# Altium integrated library Microchip Wireless.IntLib: 91 symbols (part 1 of 3)
Pins are listed as number, name and electrical type; pins without a type are passive.

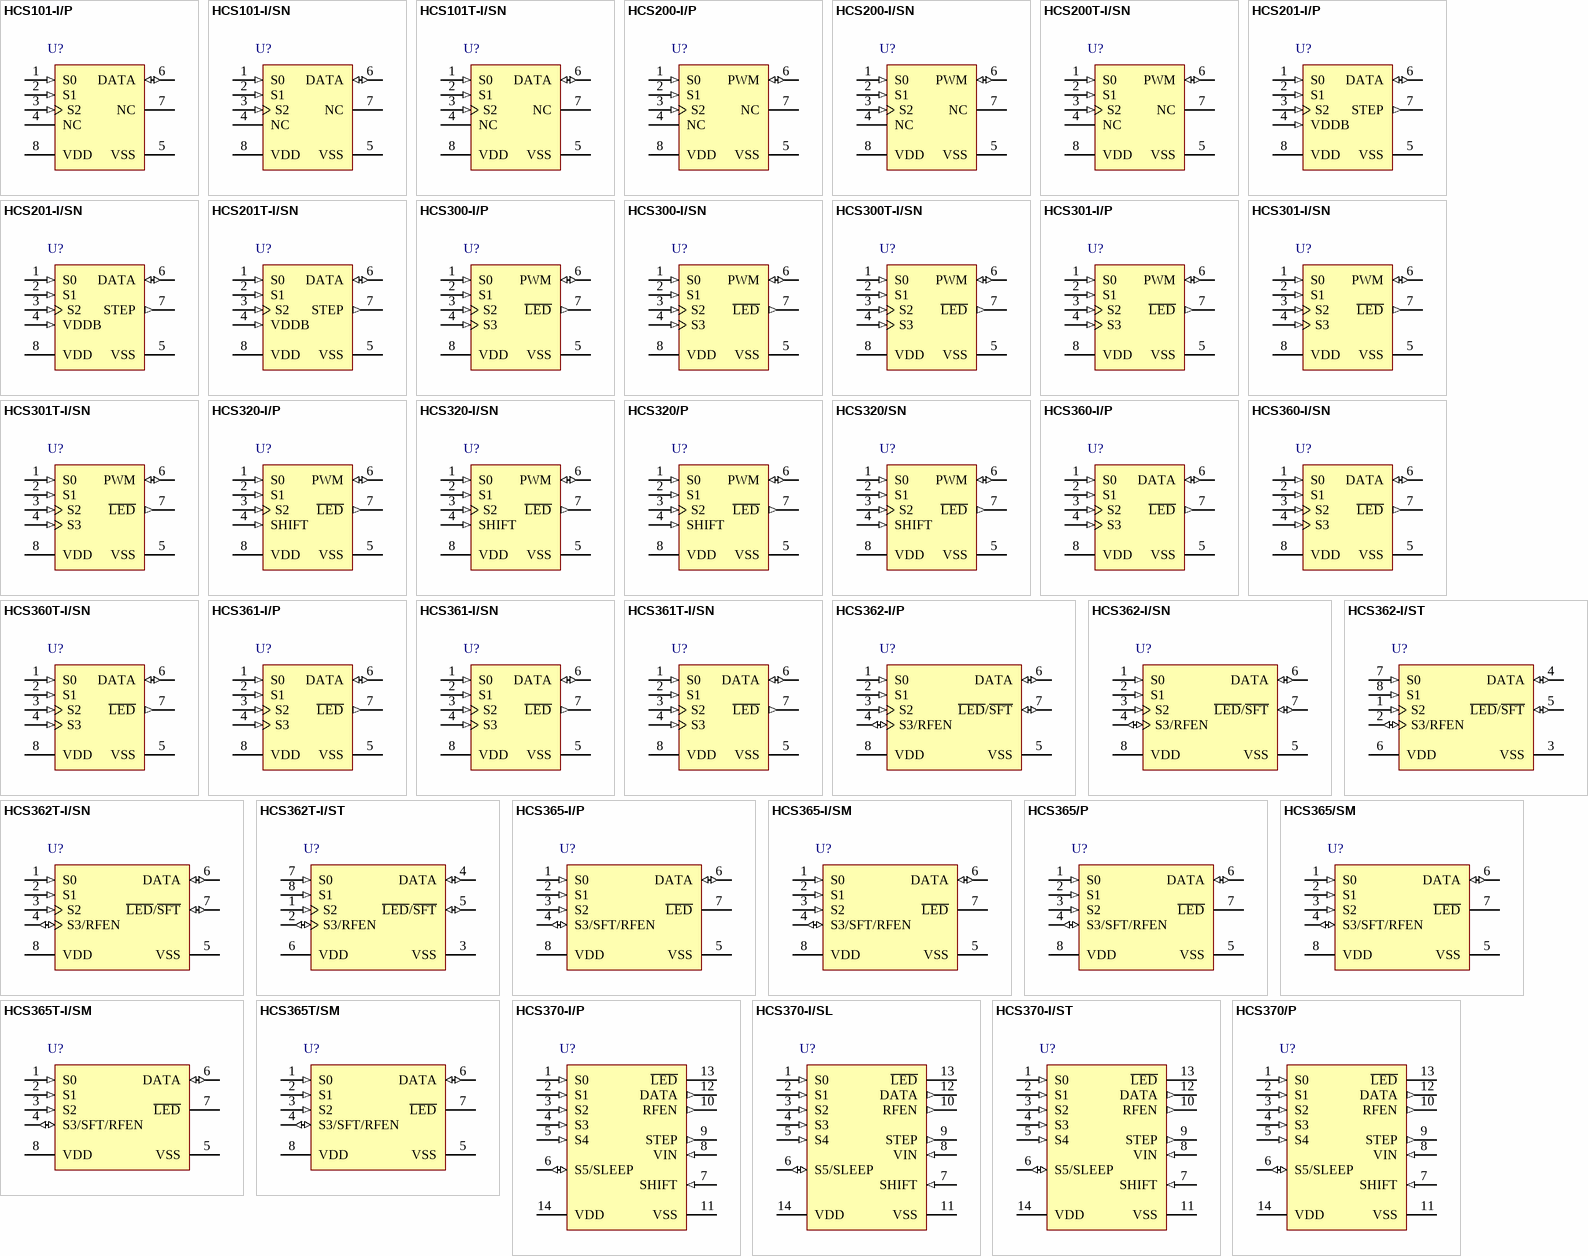
[diagram p0: symbols HCS101-I/P to HCS370/P]

## HCS101-I/P
designator U?
Fixed Code Encoder, 8-Pin PDIP, Industrial Temperature; Manufacturer: Microchip; PartNumber: HCS101-I/P; DatasheetVersion: revC, Nov-2002; PackageVersion: revBB, Aug-2009; PackageReference: PDIP300-P8; PackageDescription: 8-Lead Plastic Dual In-Line (P) - 300 mil Body [PDIP]; Supplier 1: Digi-Key; Supplier Part Number 1: HCS101-I/P-ND; Supplier 2: Mouser; Supplier Part Number 2: 579-HCS101-I/P; Mounting Technology: Through Hole; Code_JEDEC: MS-001; ComponentLink1Description: Manufacturer URL; ComponentLink1URL: http://www.microchip.com/; ComponentLink2Description: Datasheet; ComponentLink2URL: http://ww1.microchip.com/downloads/en/DeviceDoc/41115c.pdf; ComponentLink3Description: Package Specification; ComponentLink3URL: http://ww1.microchip.com/downloads/en/PackagingSpec/00049AW.pdf
footprint PDIP300-P8 (DIP, 8-Leads, Row Spacing 7.62mm, Pitch 2.54mm, Body 9.5x6.6mm)
pins: 1 S0 (in), 2 S1 (in), 3 S2 (in), 4 NC, 5 VSS (power), 6 DATA (io), 7 NC, 8 VDD (power)

## HCS101-I/SN
designator U?
Fixed Code Encoder, 8-Pin SOIC 150mil, Industrial Temperature; Manufacturer: Microchip; PartNumber: HCS101-I/SN; DatasheetVersion: revC, Nov-2002; PackageVersion: revBB, Aug-2009; PackageReference: SOIC-SN8; PackageDescription: 8-Lead Plastic Small Outline (SN) - Narrow, 3.90mm Body [SOIC]; Supplier 1: Digi-Key; Supplier Part Number 1: HCS101-I/SN-ND; Supplier 2: Newark; Supplier Part Number 2: 92C4041; Supplier 3: Mouser; Supplier Part Number 3: 579-HCS101-I/SN; Mounting Technology: Surface Mount; Code_JEDEC: MS-012; Code_IPC: SOIC127P600-8; ComponentLink1Description: Manufacturer URL; ComponentLink1URL: http://www.microchip.com/; ComponentLink2Description: Datasheet; ComponentLink2URL: http://ww1.microchip.com/downloads/en/DeviceDoc/41115c.pdf; ComponentLink3Description: Package Specification; ComponentLink3URL: http://ww1.microchip.com/downloads/en/PackagingSpec/00049AW.pdf
footprint SOIC-SN8_N (SOIC, 8-Leads, Body 4.9x3.8mm, Pitch 1.27mm, IPC Medium Density)
footprint SOIC-SN8_L (SOIC, 8-Leads, Body 4.9x3.8mm, Pitch 1.27mm, IPC High Density)
footprint SOIC-SN8_M (SOIC, 8-Leads, Body 4.9x3.8mm, Pitch 1.27mm, IPC Low Density)
pins: 1 S0 (in), 2 S1 (in), 3 S2 (in), 4 NC, 5 VSS (power), 6 DATA (io), 7 NC, 8 VDD (power)

## HCS101T-I/SN
designator U?
Fixed Code Encoder, 8-Pin SOIC 150mil, Industrial Temperature, Tape and Reel; Manufacturer: Microchip; PartNumber: HCS101T-I/SN; DatasheetVersion: revC, Nov-2002; PackageVersion: revBB, Aug-2009; PackageReference: SOIC-SN8; PackageDescription: 8-Lead Plastic Small Outline (SN) - Narrow, 3.90mm Body [SOIC]; Supplier 1: Digi-Key; Supplier Part Number 1: HCS101T-I/SN-ND; Supplier 2: Mouser; Supplier Part Number 2: 579-HCS101T-I/SN; Mounting Technology: Surface Mount; Code_JEDEC: MS-012; Code_IPC: SOIC127P600-8; ComponentLink1Description: Manufacturer URL; ComponentLink1URL: http://www.microchip.com/; ComponentLink2Description: Datasheet; ComponentLink2URL: http://ww1.microchip.com/downloads/en/DeviceDoc/41115c.pdf; ComponentLink3Description: Package Specification; ComponentLink3URL: http://ww1.microchip.com/downloads/en/PackagingSpec/00049AW.pdf
footprint SOIC-SN8_N (SOIC, 8-Leads, Body 4.9x3.8mm, Pitch 1.27mm, IPC Medium Density)
footprint SOIC-SN8_L (SOIC, 8-Leads, Body 4.9x3.8mm, Pitch 1.27mm, IPC High Density)
footprint SOIC-SN8_M (SOIC, 8-Leads, Body 4.9x3.8mm, Pitch 1.27mm, IPC Low Density)
pins: 1 S0 (in), 2 S1 (in), 3 S2 (in), 4 NC, 5 VSS (power), 6 DATA (io), 7 NC, 8 VDD (power)

## HCS200-I/P
designator U?
KEELOQ® Code Hopping Encoder, 8-Pin PDIP, Industrial Temperature; Manufacturer: Microchip; PartNumber: HCS200-I/P; DatasheetVersion: revC, Jan-2002; PackageVersion: revBB, Aug-2009; PackageReference: PDIP300-P8; PackageDescription: 8-Lead Plastic Dual In-Line (P) - 300 mil Body [PDIP]; Supplier 1: Digi-Key; Supplier Part Number 1: HCS200-I/P-ND; Supplier 2: Newark; Supplier Part Number 2: 96K3663; Supplier 3: Mouser; Supplier Part Number 3: 579-HCS200-I/P; Mounting Technology: Through Hole; Code_JEDEC: MS-001; ComponentLink1Description: Manufacturer URL; ComponentLink1URL: http://www.microchip.com/; ComponentLink2Description: Datasheet; ComponentLink2URL: http://ww1.microchip.com/downloads/en/DeviceDoc/40138c.pdf; ComponentLink3Description: Package Specification; ComponentLink3URL: http://ww1.microchip.com/downloads/en/PackagingSpec/00049AW.pdf
footprint PDIP300-P8 (DIP, 8-Leads, Row Spacing 7.62mm, Pitch 2.54mm, Body 9.5x6.6mm)
pins: 1 S0 (in), 2 S1 (in), 3 S2 (in), 4 NC, 5 VSS (power), 6 PWM (io), 7 NC, 8 VDD (power)

## HCS200-I/SN
designator U?
KEELOQ® Code Hopping Encoder, 8-Pin SOIC 150mil, Industrial Temperature; Manufacturer: Microchip; PartNumber: HCS200-I/SN; DatasheetVersion: revC, Jan-2002; PackageVersion: revBB, Aug-2009; PackageReference: SOIC-SN8; PackageDescription: 8-Lead Plastic Small Outline (SN) - Narrow, 3.90mm Body [SOIC]; Supplier 1: Digi-Key; Supplier Part Number 1: HCS200-I/SN-ND; Supplier 2: Newark; Supplier Part Number 2: 33C0772; Supplier 3: Mouser; Supplier Part Number 3: 579-HCS200-I/SN; Mounting Technology: Surface Mount; Code_JEDEC: MS-012; Code_IPC: SOIC127P600-8; ComponentLink1Description: Manufacturer URL; ComponentLink1URL: http://www.microchip.com/; ComponentLink2Description: Datasheet; ComponentLink2URL: http://ww1.microchip.com/downloads/en/DeviceDoc/40138c.pdf; ComponentLink3Description: Package Specification; ComponentLink3URL: http://ww1.microchip.com/downloads/en/PackagingSpec/00049AW.pdf
footprint SOIC-SN8_N (SOIC, 8-Leads, Body 4.9x3.8mm, Pitch 1.27mm, IPC Medium Density)
footprint SOIC-SN8_L (SOIC, 8-Leads, Body 4.9x3.8mm, Pitch 1.27mm, IPC High Density)
footprint SOIC-SN8_M (SOIC, 8-Leads, Body 4.9x3.8mm, Pitch 1.27mm, IPC Low Density)
pins: 1 S0 (in), 2 S1 (in), 3 S2 (in), 4 NC, 5 VSS (power), 6 PWM (io), 7 NC, 8 VDD (power)

## HCS200T-I/SN
designator U?
KEELOQ® Code Hopping Encoder, 8-Pin SOIC 150mil, Industrial Temperature, Tape and Reel; Manufacturer: Microchip; PartNumber: HCS200T-I/SN; DatasheetVersion: revC, Jan-2002; PackageVersion: revBB, Aug-2009; PackageReference: SOIC-SN8; PackageDescription: 8-Lead Plastic Small Outline (SN) - Narrow, 3.90mm Body [SOIC]; Supplier 1: Digi-Key; Supplier Part Number 1: HCS200T-I/SN-ND; Supplier 2: Mouser; Supplier Part Number 2: 579-HCS200T-I/SN; Mounting Technology: Surface Mount; Code_JEDEC: MS-012; Code_IPC: SOIC127P600-8; ComponentLink1Description: Manufacturer URL; ComponentLink1URL: http://www.microchip.com/; ComponentLink2Description: Datasheet; ComponentLink2URL: http://ww1.microchip.com/downloads/en/DeviceDoc/40138c.pdf; ComponentLink3Description: Package Specification; ComponentLink3URL: http://ww1.microchip.com/downloads/en/PackagingSpec/00049AW.pdf
footprint SOIC-SN8_N (SOIC, 8-Leads, Body 4.9x3.8mm, Pitch 1.27mm, IPC Medium Density)
footprint SOIC-SN8_L (SOIC, 8-Leads, Body 4.9x3.8mm, Pitch 1.27mm, IPC High Density)
footprint SOIC-SN8_M (SOIC, 8-Leads, Body 4.9x3.8mm, Pitch 1.27mm, IPC Low Density)
pins: 1 S0 (in), 2 S1 (in), 3 S2 (in), 4 NC, 5 VSS (power), 6 PWM (io), 7 NC, 8 VDD (power)

## HCS201-I/P
designator U?
KEELOQ® Code Hopping Encoder, 8-Pin PDIP, Industrial Temperature; Manufacturer: Microchip; PartNumber: HCS201-I/P; DatasheetVersion: revC, Dec-2001; PackageVersion: revBB, Aug-2009; PackageReference: PDIP300-P8; PackageDescription: 8-Lead Plastic Dual In-Line (P) - 300 mil Body [PDIP]; Supplier 1: Digi-Key; Supplier Part Number 1: HCS201-I/P-ND; Supplier 2: Mouser; Supplier Part Number 2: 579-HCS201-I/P; Mounting Technology: Through Hole; Code_JEDEC: MS-001; ComponentLink1Description: Manufacturer URL; ComponentLink1URL: http://www.microchip.com/; ComponentLink2Description: Datasheet; ComponentLink2URL: http://ww1.microchip.com/downloads/en/DeviceDoc/41098c.pdf; ComponentLink3Description: Package Specification; ComponentLink3URL: http://ww1.microchip.com/downloads/en/PackagingSpec/00049AW.pdf
footprint PDIP300-P8 (DIP, 8-Leads, Row Spacing 7.62mm, Pitch 2.54mm, Body 9.5x6.6mm)
pins: 1 S0 (in), 2 S1 (in), 3 S2 (in), 4 VDDB (in), 5 VSS (power), 6 DATA (io), 7 STEP (out), 8 VDD (power)

## HCS201-I/SN
designator U?
KEELOQ® Code Hopping Encoder, 8-Pin SOIC 150mil, Industrial Temperature; Manufacturer: Microchip; PartNumber: HCS201-I/SN; DatasheetVersion: revC, Dec-2001; PackageVersion: revBB, Aug-2009; PackageReference: SOIC-SN8; PackageDescription: 8-Lead Plastic Small Outline (SN) - Narrow, 3.90mm Body [SOIC]; Supplier 1: Digi-Key; Supplier Part Number 1: HCS201-I/SN-ND; Supplier 2: Newark; Supplier Part Number 2: 33C0774; Supplier 3: Mouser; Supplier Part Number 3: 579-HCS201-I/SN; Mounting Technology: Surface Mount; Code_JEDEC: MS-012; Code_IPC: SOIC127P600-8; ComponentLink1Description: Manufacturer URL; ComponentLink1URL: http://www.microchip.com/; ComponentLink2Description: Datasheet; ComponentLink2URL: http://ww1.microchip.com/downloads/en/DeviceDoc/41098c.pdf; ComponentLink3Description: Package Specification; ComponentLink3URL: http://ww1.microchip.com/downloads/en/PackagingSpec/00049AW.pdf
footprint SOIC-SN8_N (SOIC, 8-Leads, Body 4.9x3.8mm, Pitch 1.27mm, IPC Medium Density)
footprint SOIC-SN8_L (SOIC, 8-Leads, Body 4.9x3.8mm, Pitch 1.27mm, IPC High Density)
footprint SOIC-SN8_M (SOIC, 8-Leads, Body 4.9x3.8mm, Pitch 1.27mm, IPC Low Density)
pins: 1 S0 (in), 2 S1 (in), 3 S2 (in), 4 VDDB (in), 5 VSS (power), 6 DATA (io), 7 STEP (out), 8 VDD (power)

## HCS201T-I/SN
designator U?
KEELOQ® Code Hopping Encoder, 8-Pin SOIC 150mil, Industrial Temperature, Tape and Reel; Manufacturer: Microchip; PartNumber: HCS201T-I/SN; DatasheetVersion: revC, Dec-2001; PackageVersion: revBB, Aug-2009; PackageReference: SOIC-SN8; PackageDescription: 8-Lead Plastic Small Outline (SN) - Narrow, 3.90mm Body [SOIC]; Supplier 1: Digi-Key; Supplier Part Number 1: HCS201T-I/SN-ND; Supplier 2: Mouser; Supplier Part Number 2: 579-HCS201T-I/SN; Mounting Technology: Surface Mount; Code_JEDEC: MS-012; Code_IPC: SOIC127P600-8; ComponentLink1Description: Manufacturer URL; ComponentLink1URL: http://www.microchip.com/; ComponentLink2Description: Datasheet; ComponentLink2URL: http://ww1.microchip.com/downloads/en/DeviceDoc/41098c.pdf; ComponentLink3Description: Package Specification; ComponentLink3URL: http://ww1.microchip.com/downloads/en/PackagingSpec/00049AW.pdf
footprint SOIC-SN8_N (SOIC, 8-Leads, Body 4.9x3.8mm, Pitch 1.27mm, IPC Medium Density)
footprint SOIC-SN8_L (SOIC, 8-Leads, Body 4.9x3.8mm, Pitch 1.27mm, IPC High Density)
footprint SOIC-SN8_M (SOIC, 8-Leads, Body 4.9x3.8mm, Pitch 1.27mm, IPC Low Density)
pins: 1 S0 (in), 2 S1 (in), 3 S2 (in), 4 VDDB (in), 5 VSS (power), 6 DATA (io), 7 STEP (out), 8 VDD (power)

## HCS300-I/P
designator U?
KEELOQ® Code Hopping Encoder, 8-Pin PDIP, Industrial Temperature; Manufacturer: Microchip; PartNumber: HCS300-I/P; DatasheetVersion: revF, Nov-2002; PackageVersion: revBB, Aug-2009; PackageReference: PDIP300-P8; PackageDescription: 8-Lead Plastic Dual In-Line (P) - 300 mil Body [PDIP]; Supplier 1: Digi-Key; Supplier Part Number 1: HCS300-I/P-ND; Supplier 2: Newark; Supplier Part Number 2: 65K1031; Supplier 3: Mouser; Supplier Part Number 3: 579-HCS300-I/P; Mounting Technology: Through Hole; Code_JEDEC: MS-001; ComponentLink1Description: Manufacturer URL; ComponentLink1URL: http://www.microchip.com/; ComponentLink2Description: Datasheet; ComponentLink2URL: http://ww1.microchip.com/downloads/en/DeviceDoc/21137f.pdf; ComponentLink3Description: Package Specification; ComponentLink3URL: http://ww1.microchip.com/downloads/en/PackagingSpec/00049AW.pdf
footprint PDIP300-P8 (DIP, 8-Leads, Row Spacing 7.62mm, Pitch 2.54mm, Body 9.5x6.6mm)
pins: 1 S0 (in), 2 S1 (in), 3 S2 (in), 4 S3 (in), 5 VSS (power), 6 PWM (io), 7 ~{LED} (out), 8 VDD (power)

## HCS300-I/SN
designator U?
KEELOQ® Code Hopping Encoder, 8-Pin SOIC 150mil, Industrial Temperature; Manufacturer: Microchip; PartNumber: HCS300-I/SN; DatasheetVersion: revF, Nov-2002; PackageVersion: revBB, Aug-2009; PackageReference: SOIC-SN8; PackageDescription: 8-Lead Plastic Small Outline (SN) - Narrow, 3.90mm Body [SOIC]; Supplier 1: Digi-Key; Supplier Part Number 1: HCS300-I/SN-ND; Supplier 2: Farnell; Supplier Part Number 2: 2078282; Supplier 3: Newark; Supplier Part Number 3: 06W0721; Supplier 4: Newark; Supplier Part Number 4: 96K3668; Supplier 5: Mouser; Supplier Part Number 5: 579-HCS300-I/SN; Mounting Technology: Surface Mount; Code_JEDEC: MS-012; Code_IPC: SOIC127P600-8; ComponentLink1Description: Manufacturer URL; ComponentLink1URL: http://www.microchip.com/; ComponentLink2Description: Datasheet; ComponentLink2URL: http://ww1.microchip.com/downloads/en/DeviceDoc/21137f.pdf; ComponentLink3Description: Package Specification; ComponentLink3URL: http://ww1.microchip.com/downloads/en/PackagingSpec/00049AW.pdf
footprint SOIC-SN8_N (SOIC, 8-Leads, Body 4.9x3.8mm, Pitch 1.27mm, IPC Medium Density)
footprint SOIC-SN8_L (SOIC, 8-Leads, Body 4.9x3.8mm, Pitch 1.27mm, IPC High Density)
footprint SOIC-SN8_M (SOIC, 8-Leads, Body 4.9x3.8mm, Pitch 1.27mm, IPC Low Density)
pins: 1 S0 (in), 2 S1 (in), 3 S2 (in), 4 S3 (in), 5 VSS (power), 6 PWM (io), 7 ~{LED} (out), 8 VDD (power)

## HCS300T-I/SN
designator U?
KEELOQ® Code Hopping Encoder, 8-Pin SOIC 150mil, Industrial Temperature, Tape and Reel; Manufacturer: Microchip; PartNumber: HCS300T-I/SN; DatasheetVersion: revF, Nov-2002; PackageVersion: revBB, Aug-2009; PackageReference: SOIC-SN8; PackageDescription: 8-Lead Plastic Small Outline (SN) - Narrow, 3.90mm Body [SOIC]; Supplier 1: Digi-Key; Supplier Part Number 1: HCS300T-I/SN-ND; Supplier 2: Mouser; Supplier Part Number 2: 579-HCS300T-I/SN; Mounting Technology: Surface Mount; Code_JEDEC: MS-012; Code_IPC: SOIC127P600-8; ComponentLink1Description: Manufacturer URL; ComponentLink1URL: http://www.microchip.com/; ComponentLink2Description: Datasheet; ComponentLink2URL: http://ww1.microchip.com/downloads/en/DeviceDoc/21137f.pdf; ComponentLink3Description: Package Specification; ComponentLink3URL: http://ww1.microchip.com/downloads/en/PackagingSpec/00049AW.pdf
footprint SOIC-SN8_N (SOIC, 8-Leads, Body 4.9x3.8mm, Pitch 1.27mm, IPC Medium Density)
footprint SOIC-SN8_L (SOIC, 8-Leads, Body 4.9x3.8mm, Pitch 1.27mm, IPC High Density)
footprint SOIC-SN8_M (SOIC, 8-Leads, Body 4.9x3.8mm, Pitch 1.27mm, IPC Low Density)
pins: 1 S0 (in), 2 S1 (in), 3 S2 (in), 4 S3 (in), 5 VSS (power), 6 PWM (io), 7 ~{LED} (out), 8 VDD (power)

## HCS301-I/P
designator U?
KEELOQ® Code Hopping Encoder, 8-Pin PDIP, Industrial Temperature; Manufacturer: Microchip; PartNumber: HCS301-I/P; DatasheetVersion: revB, Dec-2001; PackageVersion: revBB, Aug-2009; PackageReference: PDIP300-P8; PackageDescription: 8-Lead Plastic Dual In-Line (P) - 300 mil Body [PDIP]; Supplier 1: Digi-Key; Supplier Part Number 1: HCS301-I/P-ND; Supplier 2: Newark; Supplier Part Number 2: 96K3670; Supplier 3: Mouser; Supplier Part Number 3: 579-HCS301-I/P; Mounting Technology: Through Hole; Code_JEDEC: MS-001; ComponentLink1Description: Manufacturer URL; ComponentLink1URL: http://www.microchip.com/; ComponentLink2Description: Datasheet; ComponentLink2URL: http://ww1.microchip.com/downloads/en/DeviceDoc/21143b.pdf; ComponentLink3Description: Package Specification; ComponentLink3URL: http://ww1.microchip.com/downloads/en/PackagingSpec/00049AW.pdf
footprint PDIP300-P8 (DIP, 8-Leads, Row Spacing 7.62mm, Pitch 2.54mm, Body 9.5x6.6mm)
pins: 1 S0 (in), 2 S1 (in), 3 S2 (in), 4 S3 (in), 5 VSS (power), 6 PWM (io), 7 ~{LED} (out), 8 VDD (power)

## HCS301-I/SN
designator U?
KEELOQ® Code Hopping Encoder, 8-Pin SOIC 150mil, Industrial Temperature; Manufacturer: Microchip; PartNumber: HCS301-I/SN; DatasheetVersion: revB, Dec-2001; PackageVersion: revBB, Aug-2009; PackageReference: SOIC-SN8; PackageDescription: 8-Lead Plastic Small Outline (SN) - Narrow, 3.90mm Body [SOIC]; Supplier 1: Digi-Key; Supplier Part Number 1: HCS301-I/SN-ND; Supplier 2: Farnell; Supplier Part Number 2: 1212475; Supplier 3: Newark; Supplier Part Number 3: 34M6373; Supplier 4: Newark; Supplier Part Number 4: 12C1803; Supplier 5: Mouser; Supplier Part Number 5: 579-HCS301-I/SN; Mounting Technology: Surface Mount; Code_JEDEC: MS-012; Code_IPC: SOIC127P600-8; ComponentLink1Description: Manufacturer URL; ComponentLink1URL: http://www.microchip.com/; ComponentLink2Description: Datasheet; ComponentLink2URL: http://ww1.microchip.com/downloads/en/DeviceDoc/21143b.pdf; ComponentLink3Description: Package Specification; ComponentLink3URL: http://ww1.microchip.com/downloads/en/PackagingSpec/00049AW.pdf
footprint SOIC-SN8_N (SOIC, 8-Leads, Body 4.9x3.8mm, Pitch 1.27mm, IPC Medium Density)
footprint SOIC-SN8_L (SOIC, 8-Leads, Body 4.9x3.8mm, Pitch 1.27mm, IPC High Density)
footprint SOIC-SN8_M (SOIC, 8-Leads, Body 4.9x3.8mm, Pitch 1.27mm, IPC Low Density)
pins: 1 S0 (in), 2 S1 (in), 3 S2 (in), 4 S3 (in), 5 VSS (power), 6 PWM (io), 7 ~{LED} (out), 8 VDD (power)

## HCS301T-I/SN
designator U?
KEELOQ® Code Hopping Encoder, 8-Pin SOIC 150mil, Industrial Temperature, Tape and Reel; Manufacturer: Microchip; PartNumber: HCS301T-I/SN; DatasheetVersion: revB, Dec-2001; PackageVersion: revBB, Aug-2009; PackageReference: SOIC-SN8; PackageDescription: 8-Lead Plastic Small Outline (SN) - Narrow, 3.90mm Body [SOIC]; Supplier 1: Digi-Key; Supplier Part Number 1: HCS301T-I/SN-ND; Supplier 2: Mouser; Supplier Part Number 2: 579-HCS301T-I/SN; Mounting Technology: Surface Mount; Code_JEDEC: MS-012; Code_IPC: SOIC127P600-8; ComponentLink1Description: Manufacturer URL; ComponentLink1URL: http://www.microchip.com/; ComponentLink2Description: Datasheet; ComponentLink2URL: http://ww1.microchip.com/downloads/en/DeviceDoc/21143b.pdf; ComponentLink3Description: Package Specification; ComponentLink3URL: http://ww1.microchip.com/downloads/en/PackagingSpec/00049AW.pdf
footprint SOIC-SN8_N (SOIC, 8-Leads, Body 4.9x3.8mm, Pitch 1.27mm, IPC Medium Density)
footprint SOIC-SN8_L (SOIC, 8-Leads, Body 4.9x3.8mm, Pitch 1.27mm, IPC High Density)
footprint SOIC-SN8_M (SOIC, 8-Leads, Body 4.9x3.8mm, Pitch 1.27mm, IPC Low Density)
pins: 1 S0 (in), 2 S1 (in), 3 S2 (in), 4 S3 (in), 5 VSS (power), 6 PWM (io), 7 ~{LED} (out), 8 VDD (power)

## HCS320-I/P
designator U?
KEELOQ® Code Hopping Encoder, 8-Pin PDIP, Industrial Temperature; Manufacturer: Microchip; PartNumber: HCS320-I/P; DatasheetVersion: revC, Dec-2001; PackageVersion: revBB, Aug-2009; PackageReference: PDIP300-P8; PackageDescription: 8-Lead Plastic Dual In-Line (P) - 300 mil Body [PDIP]; Supplier 1: Digi-Key; Supplier Part Number 1: HCS320-I/P-ND; Supplier 2: Newark; Supplier Part Number 2: 33C0775; Supplier 3: Mouser; Supplier Part Number 3: 579-HCS320-I/P; Mounting Technology: Through Hole; Code_JEDEC: MS-001; ComponentLink1Description: Manufacturer URL; ComponentLink1URL: http://www.microchip.com/; ComponentLink2Description: Datasheet; ComponentLink2URL: http://ww1.microchip.com/downloads/en/DeviceDoc/41097c.pdf; ComponentLink3Description: Package Specification; ComponentLink3URL: http://ww1.microchip.com/downloads/en/PackagingSpec/00049AW.pdf
footprint PDIP300-P8 (DIP, 8-Leads, Row Spacing 7.62mm, Pitch 2.54mm, Body 9.5x6.6mm)
pins: 1 S0 (in), 2 S1 (in), 3 S2 (in), 4 SHIFT (in), 5 VSS (power), 6 PWM (io), 7 ~{LED} (out), 8 VDD (power)

## HCS320-I/SN
designator U?
KEELOQ® Code Hopping Encoder, 8-Pin SOIC 150mil, Industrial Temperature; Manufacturer: Microchip; PartNumber: HCS320-I/SN; DatasheetVersion: revC, Dec-2001; PackageVersion: revBB, Aug-2009; PackageReference: SOIC-SN8; PackageDescription: 8-Lead Plastic Small Outline (SN) - Narrow, 3.90mm Body [SOIC]; Supplier 1: Digi-Key; Supplier Part Number 1: HCS320-I/SN-ND; Supplier 2: Newark; Supplier Part Number 2: 33C0776; Supplier 3: Mouser; Supplier Part Number 3: 579-HCS320-I/SN; Mounting Technology: Surface Mount; Code_JEDEC: MS-012; Code_IPC: SOIC127P600-8; ComponentLink1Description: Manufacturer URL; ComponentLink1URL: http://www.microchip.com/; ComponentLink2Description: Datasheet; ComponentLink2URL: http://ww1.microchip.com/downloads/en/DeviceDoc/41097c.pdf; ComponentLink3Description: Package Specification; ComponentLink3URL: http://ww1.microchip.com/downloads/en/PackagingSpec/00049AW.pdf
footprint SOIC-SN8_N (SOIC, 8-Leads, Body 4.9x3.8mm, Pitch 1.27mm, IPC Medium Density)
footprint SOIC-SN8_L (SOIC, 8-Leads, Body 4.9x3.8mm, Pitch 1.27mm, IPC High Density)
footprint SOIC-SN8_M (SOIC, 8-Leads, Body 4.9x3.8mm, Pitch 1.27mm, IPC Low Density)
pins: 1 S0 (in), 2 S1 (in), 3 S2 (in), 4 SHIFT (in), 5 VSS (power), 6 PWM (io), 7 ~{LED} (out), 8 VDD (power)

## HCS320/P
designator U?
KEELOQ® Code Hopping Encoder, 8-Pin PDIP, Commercial Temperature; Manufacturer: Microchip; PartNumber: HCS320/P; DatasheetVersion: revC, Dec-2001; PackageVersion: revBB, Aug-2009; PackageReference: PDIP300-P8; PackageDescription: 8-Lead Plastic Dual In-Line (P) - 300 mil Body [PDIP]; Supplier 1: Digi-Key; Supplier Part Number 1: HCS320/P-ND; Supplier 2: Mouser; Supplier Part Number 2: 579-HCS320/P; Mounting Technology: Through Hole; Code_JEDEC: MS-001; ComponentLink1Description: Manufacturer URL; ComponentLink1URL: http://www.microchip.com/; ComponentLink2Description: Datasheet; ComponentLink2URL: http://ww1.microchip.com/downloads/en/DeviceDoc/41097c.pdf; ComponentLink3Description: Package Specification; ComponentLink3URL: http://ww1.microchip.com/downloads/en/PackagingSpec/00049AW.pdf
footprint PDIP300-P8 (DIP, 8-Leads, Row Spacing 7.62mm, Pitch 2.54mm, Body 9.5x6.6mm)
pins: 1 S0 (in), 2 S1 (in), 3 S2 (in), 4 SHIFT (in), 5 VSS (power), 6 PWM (io), 7 ~{LED} (out), 8 VDD (power)

## HCS320/SN
designator U?
KEELOQ® Code Hopping Encoder, 8-Pin SOIC 150mil, Commercial Temperature; Manufacturer: Microchip; PartNumber: HCS320/SN; DatasheetVersion: revC, Dec-2001; PackageVersion: revBB, Aug-2009; PackageReference: SOIC-SN8; PackageDescription: 8-Lead Plastic Small Outline (SN) - Narrow, 3.90mm Body [SOIC]; Supplier 1: Digi-Key; Supplier Part Number 1: HCS320/SN-ND; Supplier 2: Mouser; Supplier Part Number 2: 579-HCS320/SN; Mounting Technology: Surface Mount; Code_JEDEC: MS-012; Code_IPC: SOIC127P600-8; ComponentLink1Description: Manufacturer URL; ComponentLink1URL: http://www.microchip.com/; ComponentLink2Description: Datasheet; ComponentLink2URL: http://ww1.microchip.com/downloads/en/DeviceDoc/41097c.pdf; ComponentLink3Description: Package Specification; ComponentLink3URL: http://ww1.microchip.com/downloads/en/PackagingSpec/00049AW.pdf
footprint SOIC-SN8_N (SOIC, 8-Leads, Body 4.9x3.8mm, Pitch 1.27mm, IPC Medium Density)
footprint SOIC-SN8_L (SOIC, 8-Leads, Body 4.9x3.8mm, Pitch 1.27mm, IPC High Density)
footprint SOIC-SN8_M (SOIC, 8-Leads, Body 4.9x3.8mm, Pitch 1.27mm, IPC Low Density)
pins: 1 S0 (in), 2 S1 (in), 3 S2 (in), 4 SHIFT (in), 5 VSS (power), 6 PWM (io), 7 ~{LED} (out), 8 VDD (power)

## HCS360-I/P
designator U?
KEELOQ® Code Hopping Encoder, 8-Pin PDIP, Industrial Temperature; Manufacturer: Microchip; PartNumber: HCS360-I/P; DatasheetVersion: revE, Jan-2002; PackageVersion: revBB, Aug-2009; PackageReference: PDIP300-P8; PackageDescription: 8-Lead Plastic Dual In-Line (P) - 300 mil Body [PDIP]; Supplier 1: Digi-Key; Supplier Part Number 1: HCS360-I/P-ND; Supplier 2: Mouser; Supplier Part Number 2: 579-HCS360-I/P; Mounting Technology: Through Hole; Code_JEDEC: MS-001; ComponentLink1Description: Manufacturer URL; ComponentLink1URL: http://www.microchip.com/; ComponentLink2Description: Datasheet; ComponentLink2URL: http://ww1.microchip.com/downloads/en/DeviceDoc/40152e.pdf; ComponentLink3Description: Package Specification; ComponentLink3URL: http://ww1.microchip.com/downloads/en/PackagingSpec/00049AW.pdf
footprint PDIP300-P8 (DIP, 8-Leads, Row Spacing 7.62mm, Pitch 2.54mm, Body 9.5x6.6mm)
pins: 1 S0 (in), 2 S1 (in), 3 S2 (in), 4 S3 (in), 5 VSS (power), 6 DATA (io), 7 ~{LED} (out), 8 VDD (power)

## HCS360-I/SN
designator U?
KEELOQ® Code Hopping Encoder, 8-Pin SOIC 150mil, Industrial Temperature; Manufacturer: Microchip; PartNumber: HCS360-I/SN; DatasheetVersion: revE, Jan-2002; PackageVersion: revBB, Aug-2009; PackageReference: SOIC-SN8; PackageDescription: 8-Lead Plastic Small Outline (SN) - Narrow, 3.90mm Body [SOIC]; Supplier 1: Digi-Key; Supplier Part Number 1: HCS360-I/SN-ND; Supplier 2: Farnell; Supplier Part Number 2: 9758321; Supplier 3: Newark; Supplier Part Number 3: 33C0778; Supplier 4: Newark; Supplier Part Number 4: 25M9604; Supplier 5: Mouser; Supplier Part Number 5: 579-HCS360-I/SN; Mounting Technology: Surface Mount; Code_JEDEC: MS-012; Code_IPC: SOIC127P600-8; ComponentLink1Description: Manufacturer URL; ComponentLink1URL: http://www.microchip.com/; ComponentLink2Description: Datasheet; ComponentLink2URL: http://ww1.microchip.com/downloads/en/DeviceDoc/40152e.pdf; ComponentLink3Description: Package Specification; ComponentLink3URL: http://ww1.microchip.com/downloads/en/PackagingSpec/00049AW.pdf
footprint SOIC-SN8_N (SOIC, 8-Leads, Body 4.9x3.8mm, Pitch 1.27mm, IPC Medium Density)
footprint SOIC-SN8_L (SOIC, 8-Leads, Body 4.9x3.8mm, Pitch 1.27mm, IPC High Density)
footprint SOIC-SN8_M (SOIC, 8-Leads, Body 4.9x3.8mm, Pitch 1.27mm, IPC Low Density)
pins: 1 S0 (in), 2 S1 (in), 3 S2 (in), 4 S3 (in), 5 VSS (power), 6 DATA (io), 7 ~{LED} (out), 8 VDD (power)

## HCS360T-I/SN
designator U?
KEELOQ® Code Hopping Encoder, 8-Pin SOIC 150mil, Industrial Temperature, Tape and Reel; Manufacturer: Microchip; PartNumber: HCS360T-I/SN; DatasheetVersion: revE, Jan-2002; PackageVersion: revBB, Aug-2009; PackageReference: SOIC-SN8; PackageDescription: 8-Lead Plastic Small Outline (SN) - Narrow, 3.90mm Body [SOIC]; Supplier 1: Digi-Key; Supplier Part Number 1: HCS360T-I/SN-ND; Supplier 2: Mouser; Supplier Part Number 2: 579-HCS360T-I/SN; Mounting Technology: Surface Mount; Code_JEDEC: MS-012; Code_IPC: SOIC127P600-8; ComponentLink1Description: Manufacturer URL; ComponentLink1URL: http://www.microchip.com/; ComponentLink2Description: Datasheet; ComponentLink2URL: http://ww1.microchip.com/downloads/en/DeviceDoc/40152e.pdf; ComponentLink3Description: Package Specification; ComponentLink3URL: http://ww1.microchip.com/downloads/en/PackagingSpec/00049AW.pdf
footprint SOIC-SN8_N (SOIC, 8-Leads, Body 4.9x3.8mm, Pitch 1.27mm, IPC Medium Density)
footprint SOIC-SN8_L (SOIC, 8-Leads, Body 4.9x3.8mm, Pitch 1.27mm, IPC High Density)
footprint SOIC-SN8_M (SOIC, 8-Leads, Body 4.9x3.8mm, Pitch 1.27mm, IPC Low Density)
pins: 1 S0 (in), 2 S1 (in), 3 S2 (in), 4 S3 (in), 5 VSS (power), 6 DATA (io), 7 ~{LED} (out), 8 VDD (power)

## HCS361-I/P
designator U?
KEELOQ® Code Hopping Encoder, 8-Pin PDIP, Industrial Temperature; Manufacturer: Microchip; PartNumber: HCS361-I/P; DatasheetVersion: revE, Jan-2002; PackageVersion: revBB, Aug-2009; PackageReference: PDIP300-P8; PackageDescription: 8-Lead Plastic Dual In-Line (P) - 300 mil Body [PDIP]; Supplier 1: Digi-Key; Supplier Part Number 1: HCS361-I/P-ND; Supplier 2: Newark; Supplier Part Number 2: 33C0779; Supplier 3: Mouser; Supplier Part Number 3: 579-HCS361-I/P; Mounting Technology: Through Hole; Code_JEDEC: MS-001; ComponentLink1Description: Manufacturer URL; ComponentLink1URL: http://www.microchip.com/; ComponentLink2Description: Datasheet; ComponentLink2URL: http://ww1.microchip.com/downloads/en/DeviceDoc/40146e.pdf; ComponentLink3Description: Package Specification; ComponentLink3URL: http://ww1.microchip.com/downloads/en/PackagingSpec/00049AW.pdf
footprint PDIP300-P8 (DIP, 8-Leads, Row Spacing 7.62mm, Pitch 2.54mm, Body 9.5x6.6mm)
pins: 1 S0 (in), 2 S1 (in), 3 S2 (in), 4 S3 (in), 5 VSS (power), 6 DATA (io), 7 ~{LED} (out), 8 VDD (power)

## HCS361-I/SN
designator U?
KEELOQ® Code Hopping Encoder, 8-Pin SOIC 150mil, Industrial Temperature; Manufacturer: Microchip; PartNumber: HCS361-I/SN; DatasheetVersion: revE, Jan-2002; PackageVersion: revBB, Aug-2009; PackageReference: SOIC-SN8; PackageDescription: 8-Lead Plastic Small Outline (SN) - Narrow, 3.90mm Body [SOIC]; Supplier 1: Digi-Key; Supplier Part Number 1: HCS361-I/SN-ND; Supplier 2: Mouser; Supplier Part Number 2: 579-HCS361-I/SN; Mounting Technology: Surface Mount; Code_JEDEC: MS-012; Code_IPC: SOIC127P600-8; ComponentLink1Description: Manufacturer URL; ComponentLink1URL: http://www.microchip.com/; ComponentLink2Description: Datasheet; ComponentLink2URL: http://ww1.microchip.com/downloads/en/DeviceDoc/40146e.pdf; ComponentLink3Description: Package Specification; ComponentLink3URL: http://ww1.microchip.com/downloads/en/PackagingSpec/00049AW.pdf
footprint SOIC-SN8_N (SOIC, 8-Leads, Body 4.9x3.8mm, Pitch 1.27mm, IPC Medium Density)
footprint SOIC-SN8_L (SOIC, 8-Leads, Body 4.9x3.8mm, Pitch 1.27mm, IPC High Density)
footprint SOIC-SN8_M (SOIC, 8-Leads, Body 4.9x3.8mm, Pitch 1.27mm, IPC Low Density)
pins: 1 S0 (in), 2 S1 (in), 3 S2 (in), 4 S3 (in), 5 VSS (power), 6 DATA (io), 7 ~{LED} (out), 8 VDD (power)

## HCS361T-I/SN
designator U?
KEELOQ® Code Hopping Encoder, 8-Pin SOIC 150mil, Industrial Temperature, Tape and Reel; Manufacturer: Microchip; PartNumber: HCS361T-I/SN; DatasheetVersion: revE, Jan-2002; PackageVersion: revBB, Aug-2009; PackageReference: SOIC-SN8; PackageDescription: 8-Lead Plastic Small Outline (SN) - Narrow, 3.90mm Body [SOIC]; Supplier 1: Digi-Key; Supplier Part Number 1: HCS361T-I/SN-ND; Supplier 2: Mouser; Supplier Part Number 2: 579-HCS361T-I/SN; Mounting Technology: Surface Mount; Code_JEDEC: MS-012; Code_IPC: SOIC127P600-8; ComponentLink1Description: Manufacturer URL; ComponentLink1URL: http://www.microchip.com/; ComponentLink2Description: Datasheet; ComponentLink2URL: http://ww1.microchip.com/downloads/en/DeviceDoc/40146e.pdf; ComponentLink3Description: Package Specification; ComponentLink3URL: http://ww1.microchip.com/downloads/en/PackagingSpec/00049AW.pdf
footprint SOIC-SN8_N (SOIC, 8-Leads, Body 4.9x3.8mm, Pitch 1.27mm, IPC Medium Density)
footprint SOIC-SN8_L (SOIC, 8-Leads, Body 4.9x3.8mm, Pitch 1.27mm, IPC High Density)
footprint SOIC-SN8_M (SOIC, 8-Leads, Body 4.9x3.8mm, Pitch 1.27mm, IPC Low Density)
pins: 1 S0 (in), 2 S1 (in), 3 S2 (in), 4 S3 (in), 5 VSS (power), 6 DATA (io), 7 ~{LED} (out), 8 VDD (power)

## HCS362-I/P
designator U?
KEELOQ® Code Hopping Encoder, 8-Pin PDIP, Industrial Temperature; Manufacturer: Microchip; PartNumber: HCS362-I/P; DatasheetVersion: revD, Jan-2002; PackageVersion: revBB, Aug-2009; PackageReference: PDIP300-P8; PackageDescription: 8-Lead Plastic Dual In-Line (P) - 300 mil Body [PDIP]; Supplier 1: Digi-Key; Supplier Part Number 1: HCS362-I/P-ND; Supplier 2: Mouser; Supplier Part Number 2: 579-HCS362-I/P; Mounting Technology: Through Hole; Code_JEDEC: MS-001; ComponentLink1Description: Manufacturer URL; ComponentLink1URL: http://www.microchip.com/; ComponentLink2Description: Datasheet; ComponentLink2URL: http://ww1.microchip.com/downloads/en/DeviceDoc/40189d.pdf; ComponentLink3Description: Package Specification; ComponentLink3URL: http://ww1.microchip.com/downloads/en/PackagingSpec/00049AW.pdf
footprint PDIP300-P8 (DIP, 8-Leads, Row Spacing 7.62mm, Pitch 2.54mm, Body 9.5x6.6mm)
pins: 1 S0 (in), 2 S1 (in), 3 S2 (in), 4 S3/RFEN (io), 5 VSS (power), 6 DATA (io), 7 ~{LED}/~{SFT} (io), 8 VDD (power)

## HCS362-I/SN
designator U?
KEELOQ® Code Hopping Encoder, 8-Pin SOIC 150mil, Industrial Temperature; Manufacturer: Microchip; PartNumber: HCS362-I/SN; DatasheetVersion: revD, Jan-2002; PackageVersion: revBB, Aug-2009; PackageReference: SOIC-SN8; PackageDescription: 8-Lead Plastic Small Outline (SN) - Narrow, 3.90mm Body [SOIC]; Supplier 1: Digi-Key; Supplier Part Number 1: HCS362-I/SN-ND; Supplier 2: Newark; Supplier Part Number 2: 27C8929; Supplier 3: Mouser; Supplier Part Number 3: 579-HCS362-I/SN; Mounting Technology: Surface Mount; Code_JEDEC: MS-012; Code_IPC: SOIC127P600-8; ComponentLink1Description: Manufacturer URL; ComponentLink1URL: http://www.microchip.com/; ComponentLink2Description: Datasheet; ComponentLink2URL: http://ww1.microchip.com/downloads/en/DeviceDoc/40189d.pdf; ComponentLink3Description: Package Specification; ComponentLink3URL: http://ww1.microchip.com/downloads/en/PackagingSpec/00049AW.pdf
footprint SOIC-SN8_N (SOIC, 8-Leads, Body 4.9x3.8mm, Pitch 1.27mm, IPC Medium Density)
footprint SOIC-SN8_L (SOIC, 8-Leads, Body 4.9x3.8mm, Pitch 1.27mm, IPC High Density)
footprint SOIC-SN8_M (SOIC, 8-Leads, Body 4.9x3.8mm, Pitch 1.27mm, IPC Low Density)
pins: 1 S0 (in), 2 S1 (in), 3 S2 (in), 4 S3/RFEN (io), 5 VSS (power), 6 DATA (io), 7 ~{LED}/~{SFT} (io), 8 VDD (power)

## HCS362-I/ST
designator U?
KEELOQ® Code Hopping Encoder, 8-Pin TSSOP, Industrial Temperature; Manufacturer: Microchip; PartNumber: HCS362-I/ST; DatasheetVersion: revD, Jan-2002; PackageVersion: revBB, Aug-2009; PackageReference: TSSOP-ST8; PackageDescription: 8-Lead Plastic Thin Shrink Small Outline (ST) - 4.4mm Body [TSSOP]; Supplier 1: Digi-Key; Supplier Part Number 1: HCS362-I/ST-ND; Supplier 2: Mouser; Supplier Part Number 2: 579-HCS362-I/ST; Mounting Technology: Surface Mount; Code_JEDEC: MO-153; ComponentLink1Description: Manufacturer URL; ComponentLink1URL: http://www.microchip.com/; ComponentLink2Description: Datasheet; ComponentLink2URL: http://ww1.microchip.com/downloads/en/DeviceDoc/40189d.pdf; ComponentLink3Description: Package Specification; ComponentLink3URL: http://ww1.microchip.com/downloads/en/PackagingSpec/00049AW.pdf
footprint TSSOP-ST8_N (TSOP, 8-Leads, Body 3x4.4mm, Pitch 0.65mm, IPC Medium Density)
footprint TSSOP-ST8_L (TSOP, 8-Leads, Body 3x4.4mm, Pitch 0.65mm, IPC High Density)
footprint TSSOP-ST8_M (TSOP, 8-Leads, Body 3x4.4mm, Pitch 0.65mm, IPC Low Density)
pins: 1 S2 (in), 2 S3/RFEN (io), 3 VSS (power), 4 DATA (io), 5 ~{LED}/~{SFT} (io), 6 VDD (power), 7 S0 (in), 8 S1 (in)

## HCS362T-I/SN
designator U?
KEELOQ® Code Hopping Encoder, 8-Pin SOIC 150mil, Industrial Temperature, Tape and Reel; Manufacturer: Microchip; PartNumber: HCS362T-I/SN; DatasheetVersion: revD, Jan-2002; PackageVersion: revBB, Aug-2009; PackageReference: SOIC-SN8; PackageDescription: 8-Lead Plastic Small Outline (SN) - Narrow, 3.90mm Body [SOIC]; Supplier 1: Digi-Key; Supplier Part Number 1: HCS362T-I/SN-ND; Supplier 2: Mouser; Supplier Part Number 2: 579-HCS362T-I/SN; Mounting Technology: Surface Mount; Code_JEDEC: MS-012; Code_IPC: SOIC127P600-8; ComponentLink1Description: Manufacturer URL; ComponentLink1URL: http://www.microchip.com/; ComponentLink2Description: Datasheet; ComponentLink2URL: http://ww1.microchip.com/downloads/en/DeviceDoc/40189d.pdf; ComponentLink3Description: Package Specification; ComponentLink3URL: http://ww1.microchip.com/downloads/en/PackagingSpec/00049AW.pdf
footprint SOIC-SN8_N (SOIC, 8-Leads, Body 4.9x3.8mm, Pitch 1.27mm, IPC Medium Density)
footprint SOIC-SN8_L (SOIC, 8-Leads, Body 4.9x3.8mm, Pitch 1.27mm, IPC High Density)
footprint SOIC-SN8_M (SOIC, 8-Leads, Body 4.9x3.8mm, Pitch 1.27mm, IPC Low Density)
pins: 1 S0 (in), 2 S1 (in), 3 S2 (in), 4 S3/RFEN (io), 5 VSS (power), 6 DATA (io), 7 ~{LED}/~{SFT} (io), 8 VDD (power)

## HCS362T-I/ST
designator U?
KEELOQ® Code Hopping Encoder, 8-Pin TSSOP, Industrial Temperature, Tape and Reel; Manufacturer: Microchip; PartNumber: HCS362T-I/ST; DatasheetVersion: revD, Jan-2002; PackageVersion: revBB, Aug-2009; PackageReference: TSSOP-ST8; PackageDescription: 8-Lead Plastic Thin Shrink Small Outline (ST) - 4.4mm Body [TSSOP]; Supplier 1: Digi-Key; Supplier Part Number 1: HCS362T-I/ST-ND; Supplier 2: Mouser; Supplier Part Number 2: 579-HCS362T-I/ST; Mounting Technology: Surface Mount; Code_JEDEC: MO-153; ComponentLink1Description: Manufacturer URL; ComponentLink1URL: http://www.microchip.com/; ComponentLink2Description: Datasheet; ComponentLink2URL: http://ww1.microchip.com/downloads/en/DeviceDoc/40189d.pdf; ComponentLink3Description: Package Specification; ComponentLink3URL: http://ww1.microchip.com/downloads/en/PackagingSpec/00049AW.pdf
footprint TSSOP-ST8_N (TSOP, 8-Leads, Body 3x4.4mm, Pitch 0.65mm, IPC Medium Density)
footprint TSSOP-ST8_L (TSOP, 8-Leads, Body 3x4.4mm, Pitch 0.65mm, IPC High Density)
footprint TSSOP-ST8_M (TSOP, 8-Leads, Body 3x4.4mm, Pitch 0.65mm, IPC Low Density)
pins: 1 S2 (in), 2 S3/RFEN (io), 3 VSS (power), 4 DATA (io), 5 ~{LED}/~{SFT} (io), 6 VDD (power), 7 S0 (in), 8 S1 (in)

## HCS365-I/P
designator U?
KEELOQ® Code Hopping Encoder, 8-Pin PDIP, Industrial Temperature; Manufacturer: Microchip; PartNumber: HCS365-I/P; DatasheetVersion: revD, Mar-2002; PackageVersion: revBB, Aug-2009; PackageReference: PDIP300-P8; PackageDescription: 8-Lead Plastic Dual In-Line (P) - 300 mil Body [PDIP]; Supplier 1: Digi-Key; Supplier Part Number 1: HCS365-I/P-ND; Supplier 2: Mouser; Supplier Part Number 2: 579-HCS365-I/P; Mounting Technology: Through Hole; Code_JEDEC: MS-001; ComponentLink1Description: Manufacturer URL; ComponentLink1URL: http://www.microchip.com/; ComponentLink2Description: Datasheet; ComponentLink2URL: http://ww1.microchip.com/downloads/en/DeviceDoc/41109d.pdf; ComponentLink3Description: Package Specification; ComponentLink3URL: http://ww1.microchip.com/downloads/en/PackagingSpec/00049AW.pdf
footprint PDIP300-P8 (DIP, 8-Leads, Row Spacing 7.62mm, Pitch 2.54mm, Body 9.5x6.6mm)
pins: 1 S0 (in), 2 S1 (in), 3 S2 (in), 4 S3/SFT/RFEN (io), 5 VSS (power), 6 DATA (io), 7 ~{LED} (oc), 8 VDD (power)

## HCS365-I/SM
designator U?
KEELOQ® Code Hopping Encoder, 8-Pin SOIJ 208mil, Industrial Temperature; Manufacturer: Microchip; PartNumber: HCS365-I/SM; DatasheetVersion: revD, Mar-2002; PackageVersion: revBB, Aug-2009; PackageReference: SOIJ-SM8; PackageDescription: 8-Lead Plastic Small Outline (SM) - Medium, 5.28 mm Body [SOIJ]; Supplier 1: Digi-Key; Supplier Part Number 1: HCS365-I/SM-ND; Supplier 2: Mouser; Supplier Part Number 2: 579-HCS365-I/SM; Mounting Technology: Surface Mount; ComponentLink1Description: Manufacturer URL; ComponentLink1URL: http://www.microchip.com/; ComponentLink2Description: Datasheet; ComponentLink2URL: http://ww1.microchip.com/downloads/en/DeviceDoc/41109d.pdf; ComponentLink3Description: Package Specification; ComponentLink3URL: http://ww1.microchip.com/downloads/en/PackagingSpec/00049AW.pdf
footprint SOIJ-SM8_N (SOP, 8-Leads, Body 5.2x5.2mm, Pitch 1.27mm, IPC Medium Density)
footprint SOIJ-SM8_L (SOP, 8-Leads, Body 5.2x5.2mm, Pitch 1.27mm, IPC High Density)
footprint SOIJ-SM8_M (SOP, 8-Leads, Body 5.2x5.2mm, Pitch 1.27mm, IPC Low Density)
pins: 1 S0 (in), 2 S1 (in), 3 S2 (in), 4 S3/SFT/RFEN (io), 5 VSS (power), 6 DATA (io), 7 ~{LED} (oc), 8 VDD (power)

## HCS365/P
designator U?
KEELOQ® Code Hopping Encoder, 8-Pin PDIP, Commercial Temperature; Manufacturer: Microchip; PartNumber: HCS365/P; DatasheetVersion: revD, Mar-2002; PackageVersion: revBB, Aug-2009; PackageReference: PDIP300-P8; PackageDescription: 8-Lead Plastic Dual In-Line (P) - 300 mil Body [PDIP]; Supplier 1: Digi-Key; Supplier Part Number 1: HCS365/P-ND; Supplier 2: Mouser; Supplier Part Number 2: 579-HCS365/P; Mounting Technology: Through Hole; Code_JEDEC: MS-001; ComponentLink1Description: Manufacturer URL; ComponentLink1URL: http://www.microchip.com/; ComponentLink2Description: Datasheet; ComponentLink2URL: http://ww1.microchip.com/downloads/en/DeviceDoc/41109d.pdf; ComponentLink3Description: Package Specification; ComponentLink3URL: http://ww1.microchip.com/downloads/en/PackagingSpec/00049AW.pdf
footprint PDIP300-P8 (DIP, 8-Leads, Row Spacing 7.62mm, Pitch 2.54mm, Body 9.5x6.6mm)
pins: 1 S0 (in), 2 S1 (in), 3 S2 (in), 4 S3/SFT/RFEN (io), 5 VSS (power), 6 DATA (io), 7 ~{LED} (oc), 8 VDD (power)

## HCS365/SM
designator U?
KEELOQ® Code Hopping Encoder, 8-Pin SOIJ 208mil, Commercial Temperature; Manufacturer: Microchip; PartNumber: HCS365/SM; DatasheetVersion: revD, Mar-2002; PackageVersion: revBB, Aug-2009; PackageReference: SOIJ-SM8; PackageDescription: 8-Lead Plastic Small Outline (SM) - Medium, 5.28 mm Body [SOIJ]; Supplier 1: Digi-Key; Supplier Part Number 1: HCS365/SM-ND; Supplier 2: Mouser; Supplier Part Number 2: 579-HCS365/SM; Mounting Technology: Surface Mount; ComponentLink1Description: Manufacturer URL; ComponentLink1URL: http://www.microchip.com/; ComponentLink2Description: Datasheet; ComponentLink2URL: http://ww1.microchip.com/downloads/en/DeviceDoc/41109d.pdf; ComponentLink3Description: Package Specification; ComponentLink3URL: http://ww1.microchip.com/downloads/en/PackagingSpec/00049AW.pdf
footprint SOIJ-SM8_N (SOP, 8-Leads, Body 5.2x5.2mm, Pitch 1.27mm, IPC Medium Density)
footprint SOIJ-SM8_L (SOP, 8-Leads, Body 5.2x5.2mm, Pitch 1.27mm, IPC High Density)
footprint SOIJ-SM8_M (SOP, 8-Leads, Body 5.2x5.2mm, Pitch 1.27mm, IPC Low Density)
pins: 1 S0 (in), 2 S1 (in), 3 S2 (in), 4 S3/SFT/RFEN (io), 5 VSS (power), 6 DATA (io), 7 ~{LED} (oc), 8 VDD (power)

## HCS365T-I/SM
designator U?
KEELOQ® Code Hopping Encoder, 8-Pin SOIJ 208mil, Industrial Temperature, Tape and Reel; Manufacturer: Microchip; PartNumber: HCS365T-I/SM; DatasheetVersion: revD, Mar-2002; PackageVersion: revBB, Aug-2009; PackageReference: SOIJ-SM8; PackageDescription: 8-Lead Plastic Small Outline (SM) - Medium, 5.28 mm Body [SOIJ]; Supplier 1: Digi-Key; Supplier Part Number 1: HCS365T-I/SM-ND; Supplier 2: Mouser; Supplier Part Number 2: 579-HCS365T-I/SM; Mounting Technology: Surface Mount; ComponentLink1Description: Manufacturer URL; ComponentLink1URL: http://www.microchip.com/; ComponentLink2Description: Datasheet; ComponentLink2URL: http://ww1.microchip.com/downloads/en/DeviceDoc/41109d.pdf; ComponentLink3Description: Package Specification; ComponentLink3URL: http://ww1.microchip.com/downloads/en/PackagingSpec/00049AW.pdf
footprint SOIJ-SM8_N (SOP, 8-Leads, Body 5.2x5.2mm, Pitch 1.27mm, IPC Medium Density)
footprint SOIJ-SM8_L (SOP, 8-Leads, Body 5.2x5.2mm, Pitch 1.27mm, IPC High Density)
footprint SOIJ-SM8_M (SOP, 8-Leads, Body 5.2x5.2mm, Pitch 1.27mm, IPC Low Density)
pins: 1 S0 (in), 2 S1 (in), 3 S2 (in), 4 S3/SFT/RFEN (io), 5 VSS (power), 6 DATA (io), 7 ~{LED} (oc), 8 VDD (power)

## HCS365T/SM
designator U?
KEELOQ® Code Hopping Encoder, 8-Pin SOIJ 208mil, Commercial Temperature, Tape and Reel; Manufacturer: Microchip; PartNumber: HCS365T/SM; DatasheetVersion: revD, Mar-2002; PackageVersion: revBB, Aug-2009; PackageReference: SOIJ-SM8; PackageDescription: 8-Lead Plastic Small Outline (SM) - Medium, 5.28 mm Body [SOIJ]; Supplier 1: Digi-Key; Supplier Part Number 1: HCS365T/SM-ND; Supplier 2: Mouser; Supplier Part Number 2: 579-HCS365T/SM; Mounting Technology: Surface Mount; ComponentLink1Description: Manufacturer URL; ComponentLink1URL: http://www.microchip.com/; ComponentLink2Description: Datasheet; ComponentLink2URL: http://ww1.microchip.com/downloads/en/DeviceDoc/41109d.pdf; ComponentLink3Description: Package Specification; ComponentLink3URL: http://ww1.microchip.com/downloads/en/PackagingSpec/00049AW.pdf
footprint SOIJ-SM8_N (SOP, 8-Leads, Body 5.2x5.2mm, Pitch 1.27mm, IPC Medium Density)
footprint SOIJ-SM8_L (SOP, 8-Leads, Body 5.2x5.2mm, Pitch 1.27mm, IPC High Density)
footprint SOIJ-SM8_M (SOP, 8-Leads, Body 5.2x5.2mm, Pitch 1.27mm, IPC Low Density)
pins: 1 S0 (in), 2 S1 (in), 3 S2 (in), 4 S3/SFT/RFEN (io), 5 VSS (power), 6 DATA (io), 7 ~{LED} (oc), 8 VDD (power)

## HCS370-I/P
designator U?
KEELOQ® Code Hopping Encoder, 14-Pin PDIP, Industrial Temperature; Manufacturer: Microchip; PartNumber: HCS370-I/P; DatasheetVersion: revD, Mar-2002; PackageVersion: revBB, Aug-2009; PackageReference: PDIP300-P14; PackageDescription: 14-Lead Plastic Dual In-Line (P) - 300 mil Body [PDIP]; Supplier 1: Digi-Key; Supplier Part Number 1: HCS370-I/P-ND; Supplier 2: Mouser; Supplier Part Number 2: 579-HCS370-I/P; Mounting Technology: Through Hole; ComponentLink1Description: Manufacturer URL; ComponentLink1URL: http://www.microchip.com/; ComponentLink2Description: Datasheet; ComponentLink2URL: http://ww1.microchip.com/downloads/en/DeviceDoc/41111d.pdf; ComponentLink3Description: Package Specification; ComponentLink3URL: http://ww1.microchip.com/downloads/en/PackagingSpec/00049AW.pdf
footprint PDIP300-P14 (DIP, 14-Leads, Row Spacing 7.62mm, Pitch 2.54mm, Body 19.2x6.6mm)
pins: 1 S0 (in), 2 S1 (in), 3 S2 (in), 4 S3 (in), 5 S4 (in), 6 S5/SLEEP (io), 7 SHIFT (in), 8 VIN (in), 9 STEP (out), 10 RFEN (out), 11 VSS (power), 12 DATA (out), 13 ~{LED} (oc), 14 VDD (power)

## HCS370-I/SL
designator U?
KEELOQ® Code Hopping Encoder, 14-Pin SOIC 150mil, Industrial Temperature; Manufacturer: Microchip; PartNumber: HCS370-I/SL; DatasheetVersion: revD, Mar-2002; PackageVersion: revBB, Aug-2009; PackageReference: SOIC-SL14; PackageDescription: 14-Lead Plastic Small Outline (SL) - Narrow, 3.90mm Body [SOIC]; Supplier 1: Digi-Key; Supplier Part Number 1: HCS370-I/SL-ND; Supplier 2: Mouser; Supplier Part Number 2: 579-HCS370-I/SL; Mounting Technology: Surface Mount; Code_JEDEC: MS-012-AB; Code_IPC: SOIC127P600-14; ComponentLink1Description: Manufacturer URL; ComponentLink1URL: http://www.microchip.com/; ComponentLink2Description: Datasheet; ComponentLink2URL: http://ww1.microchip.com/downloads/en/DeviceDoc/41111d.pdf; ComponentLink3Description: Package Specification; ComponentLink3URL: http://ww1.microchip.com/downloads/en/PackagingSpec/00049AW.pdf
footprint SOIC-SL14_N (SOIC, 14-Leads, Body 8.7x3.9mm, Pitch 1.27mm, IPC Medium Density)
footprint SOIC-SL14_L (SOIC, 14-Leads, Body 8.7x3.9mm, Pitch 1.27mm, IPC High Density)
footprint SOIC-SL14_M (SOIC, 14-Leads, Body 8.7x3.9mm, Pitch 1.27mm, IPC Low Density)
pins: 1 S0 (in), 2 S1 (in), 3 S2 (in), 4 S3 (in), 5 S4 (in), 6 S5/SLEEP (io), 7 SHIFT (in), 8 VIN (in), 9 STEP (out), 10 RFEN (out), 11 VSS (power), 12 DATA (out), 13 ~{LED} (oc), 14 VDD (power)

## HCS370-I/ST
designator U?
KEELOQ® Code Hopping Encoder, 14-Pin TSSOP, Industrial Temperature; Manufacturer: Microchip; PartNumber: HCS370-I/ST; DatasheetVersion: revD, Mar-2002; PackageVersion: revBB, Aug-2009; PackageReference: TSSOP-ST14; PackageDescription: 14-Lead Plastic Thin Shrink Small Outline (ST) - 4.4mm Body [TSSOP]; Supplier 1: Digi-Key; Supplier Part Number 1: HCS370-I/ST-ND; Supplier 2: Mouser; Supplier Part Number 2: 579-HCS370-I/ST; Mounting Technology: Surface Mount; ComponentLink1Description: Manufacturer URL; ComponentLink1URL: http://www.microchip.com/; ComponentLink2Description: Datasheet; ComponentLink2URL: http://ww1.microchip.com/downloads/en/DeviceDoc/41111d.pdf; ComponentLink3Description: Package Specification; ComponentLink3URL: http://ww1.microchip.com/downloads/en/PackagingSpec/00049AW.pdf
footprint TSSOP-ST14_N (TSOP, 14-Leads, Body 5x4.4mm, Pitch 0.65mm, IPC Medium Density)
footprint TSSOP-ST14_L (TSOP, 14-Leads, Body 5x4.4mm, Pitch 0.65mm, IPC High Density)
footprint TSSOP-ST14_M (TSOP, 14-Leads, Body 5x4.4mm, Pitch 0.65mm, IPC Low Density)
pins: 1 S0 (in), 2 S1 (in), 3 S2 (in), 4 S3 (in), 5 S4 (in), 6 S5/SLEEP (io), 7 SHIFT (in), 8 VIN (in), 9 STEP (out), 10 RFEN (out), 11 VSS (power), 12 DATA (out), 13 ~{LED} (oc), 14 VDD (power)

## HCS370/P
designator U?
KEELOQ® Code Hopping Encoder, 14-Pin PDIP, Commercial Temperature; Manufacturer: Microchip; PartNumber: HCS370/P; DatasheetVersion: revD, Mar-2002; PackageVersion: revBB, Aug-2009; PackageReference: PDIP300-P14; PackageDescription: 14-Lead Plastic Dual In-Line (P) - 300 mil Body [PDIP]; Supplier 1: Digi-Key; Supplier Part Number 1: HCS370/P-ND; Supplier 2: Mouser; Supplier Part Number 2: 579-HCS370/P; Mounting Technology: Through Hole; ComponentLink1Description: Manufacturer URL; ComponentLink1URL: http://www.microchip.com/; ComponentLink2Description: Datasheet; ComponentLink2URL: http://ww1.microchip.com/downloads/en/DeviceDoc/41111d.pdf; ComponentLink3Description: Package Specification; ComponentLink3URL: http://ww1.microchip.com/downloads/en/PackagingSpec/00049AW.pdf
footprint PDIP300-P14 (DIP, 14-Leads, Row Spacing 7.62mm, Pitch 2.54mm, Body 19.2x6.6mm)
pins: 1 S0 (in), 2 S1 (in), 3 S2 (in), 4 S3 (in), 5 S4 (in), 6 S5/SLEEP (io), 7 SHIFT (in), 8 VIN (in), 9 STEP (out), 10 RFEN (out), 11 VSS (power), 12 DATA (out), 13 ~{LED} (oc), 14 VDD (power)

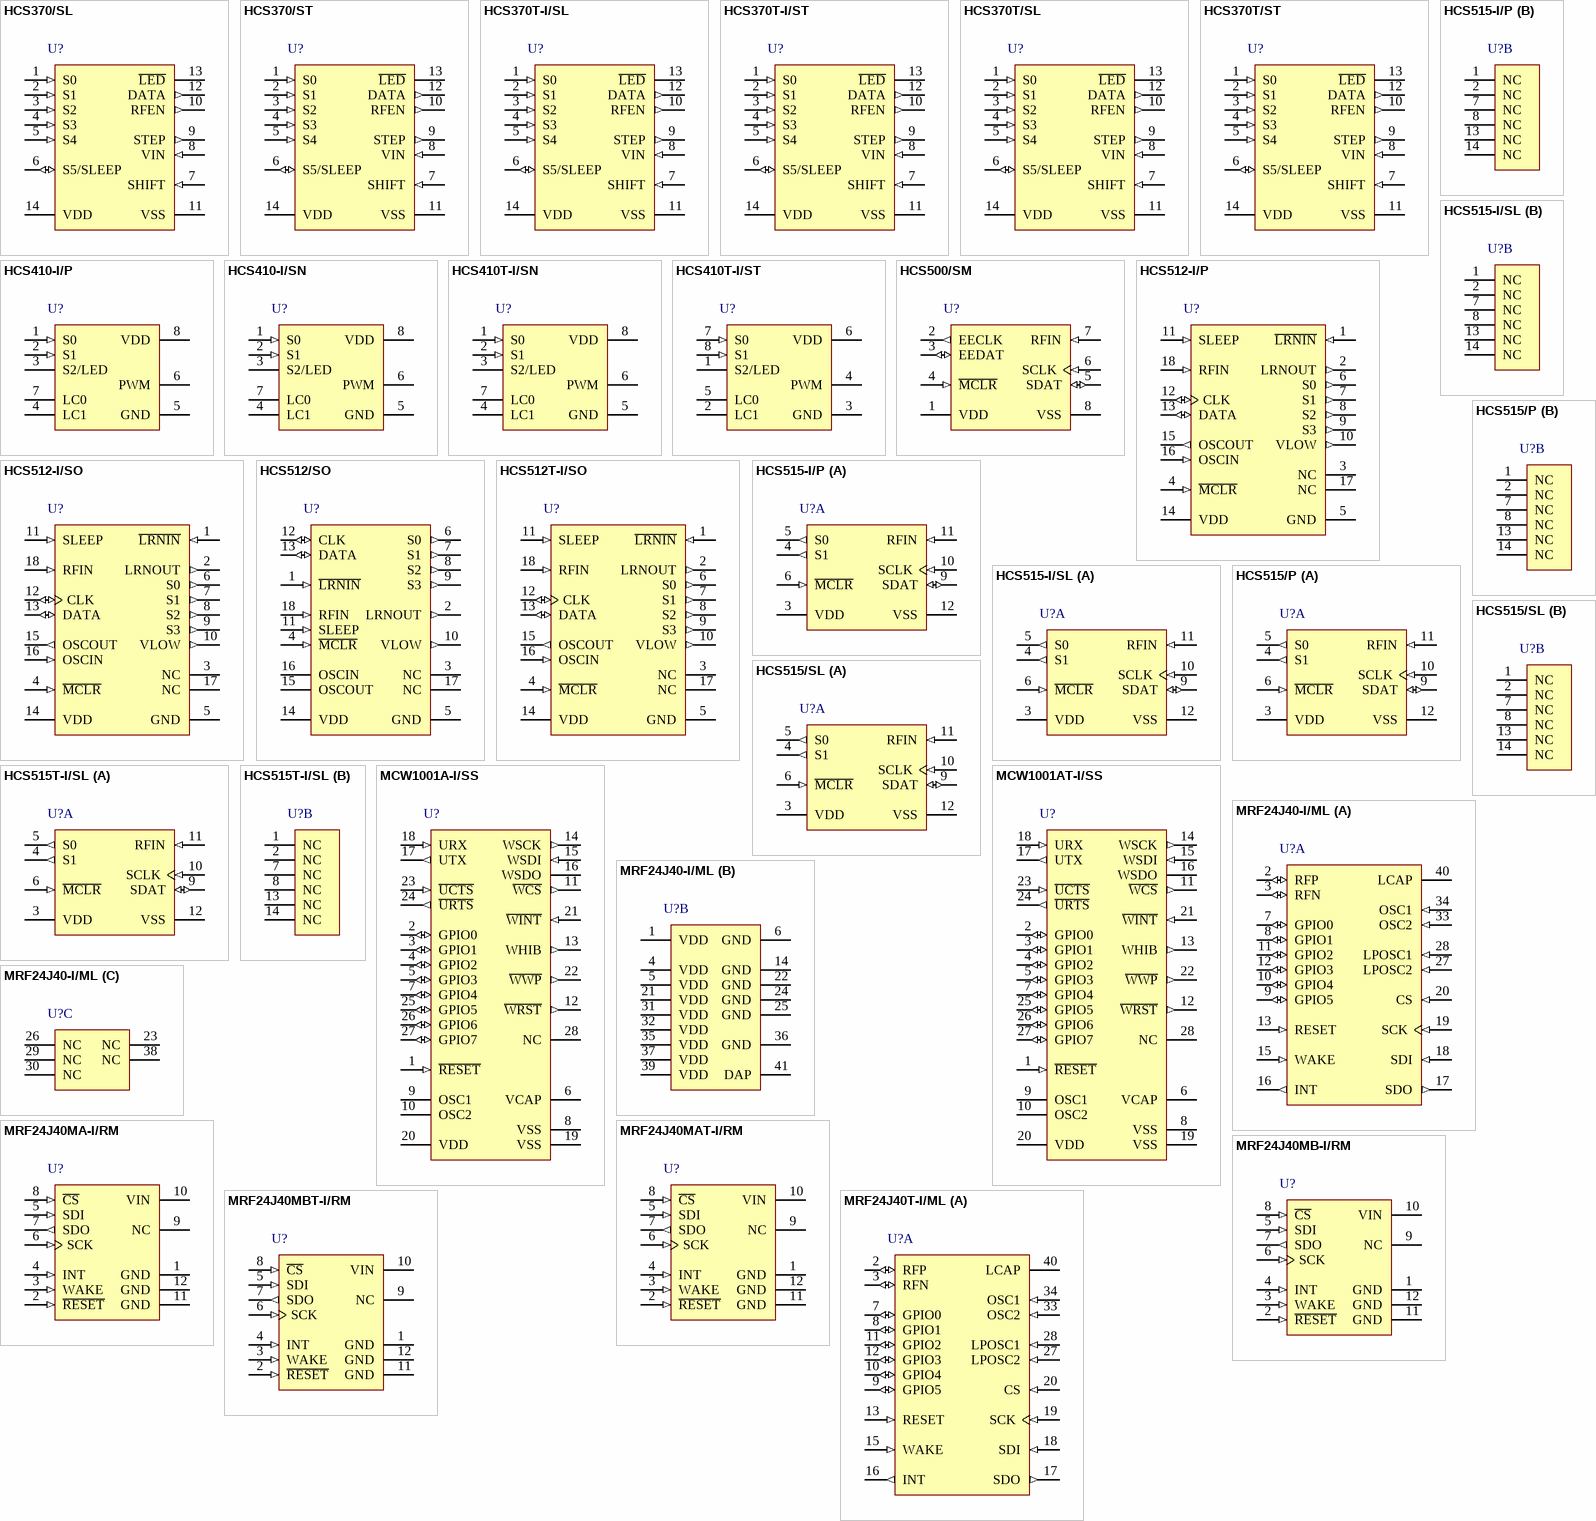
[diagram p1: symbols HCS370/SL to MRF24J40T-I/ML]

## HCS370/SL
designator U?
KEELOQ® Code Hopping Encoder, 14-Pin SOIC 150mil, Commercial Temperature; Manufacturer: Microchip; PartNumber: HCS370/SL; DatasheetVersion: revD, Mar-2002; PackageVersion: revBB, Aug-2009; PackageReference: SOIC-SL14; PackageDescription: 14-Lead Plastic Small Outline (SL) - Narrow, 3.90mm Body [SOIC]; Supplier 1: Digi-Key; Supplier Part Number 1: HCS370/SL-ND; Supplier 2: Mouser; Supplier Part Number 2: 579-HCS370/SL; Mounting Technology: Surface Mount; Code_JEDEC: MS-012-AB; Code_IPC: SOIC127P600-14; ComponentLink1Description: Manufacturer URL; ComponentLink1URL: http://www.microchip.com/; ComponentLink2Description: Datasheet; ComponentLink2URL: http://ww1.microchip.com/downloads/en/DeviceDoc/41111d.pdf; ComponentLink3Description: Package Specification; ComponentLink3URL: http://ww1.microchip.com/downloads/en/PackagingSpec/00049AW.pdf
footprint SOIC-SL14_N (SOIC, 14-Leads, Body 8.7x3.9mm, Pitch 1.27mm, IPC Medium Density)
footprint SOIC-SL14_L (SOIC, 14-Leads, Body 8.7x3.9mm, Pitch 1.27mm, IPC High Density)
footprint SOIC-SL14_M (SOIC, 14-Leads, Body 8.7x3.9mm, Pitch 1.27mm, IPC Low Density)
pins: 1 S0 (in), 2 S1 (in), 3 S2 (in), 4 S3 (in), 5 S4 (in), 6 S5/SLEEP (io), 7 SHIFT (in), 8 VIN (in), 9 STEP (out), 10 RFEN (out), 11 VSS (power), 12 DATA (out), 13 ~{LED} (oc), 14 VDD (power)